# EAGLE library part 113990105 (library esp8266modules)
NodeMCU DEVKIT V1.0 Source: Datasheet <https://github.com/nodemcu/nodemcu-devkit-v1.0/blob/master/NODEMCU_DEVKIT_V1.0.PDF>
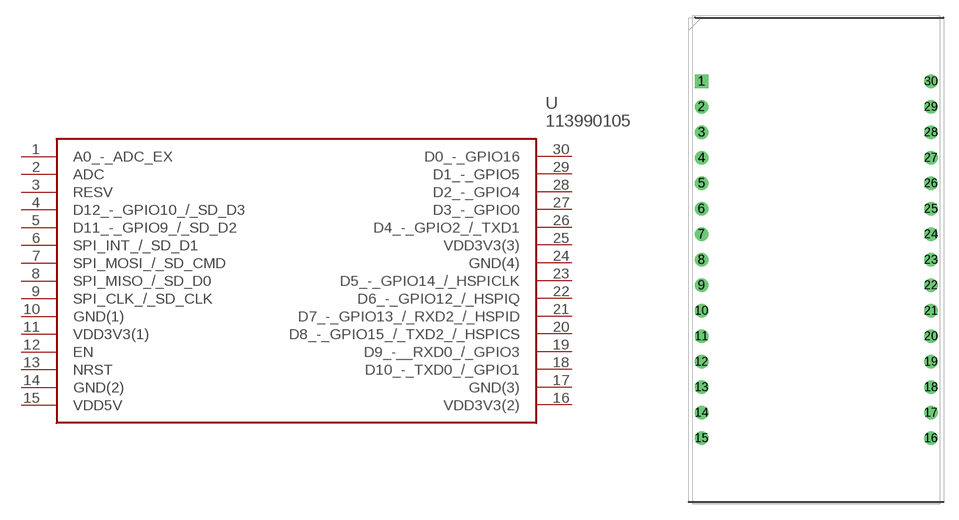
[diagram p18: symbol with the pads of DIP2286W64P254L4826H735Q30N; footprint DIP2286W64P254L4826H735Q30N]

Designator prefix U

## 113990105 (Arrow_Part_Number: 113990105; Description: NodeMCU DEVKIT V1.0; Height: 7.35mm; Manufacturer_Name: Seeed Studio; Manufacturer_Part_Number: 113990105)  [DIP2286W64P254L4826H735Q30N]
1  A0_-_ADC_EX
2  ADC
3  RESV
4  D12_-_GPIO10_/_SD_D3
5  D11_-_GPIO9_/_SD_D2
6  SPI_INT_/_SD_D1
7  SPI_MOSI_/_SD_CMD
8  SPI_MISO_/_SD_D0
9  SPI_CLK_/_SD_CLK
10  GND(1)  pwr
11  VDD3V3(1)  pwr
12  EN  in
13  NRST  in
14  GND(2)  pwr
15  VDD5V  pwr
16  VDD3V3(2)  pwr
17  GND(3)  pwr
18  D10_-_TXD0_/_GPIO1
19  D9_-__RXD0_/_GPIO3
20  D8_-_GPIO15_/_TXD2_/_HSPICS
21  D7_-_GPIO13_/_RXD2_/_HSPID
22  D6_-_GPIO12_/_HSPIQ
23  D5_-_GPIO14_/_HSPICLK
24  GND(4)  pwr
25  VDD3V3(3)  pwr
26  D4_-_GPIO2_/_TXD1
27  D3_-_GPIO0
28  D2_-_GPIO4
29  D1_-_GPIO5
30  D0_-_GPIO16

## Footprint DIP2286W64P254L4826H735Q30N (pad centres in mm)
NodeMCU V1.0
drill 0.835 pad 1.235 square: 1 -11.43,17.78
drill 0.835 pad 1.235: 2 -11.43,15.24; 3 -11.43,12.7; 4 -11.43,10.16; 5 -11.43,7.62; 6 -11.43,5.08; 7 -11.43,2.54; 8 -11.43,0; 9 -11.43,-2.54; 10 -11.43,-5.08; 11 -11.43,-7.62; 12 -11.43,-10.16; 13 -11.43,-12.7; 14 -11.43,-15.24; 15 -11.43,-17.78; 16 11.43,-17.78; 17 11.43,-15.24; 18 11.43,-12.7; 19 11.43,-10.16; 20 11.43,-7.62; 21 11.43,-5.08; 22 11.43,-2.54; 23 11.43,0; 24 11.43,2.54; 25 11.43,5.08; 26 11.43,7.62; 27 11.43,10.16; 28 11.43,12.7; 29 11.43,15.24; 30 11.43,17.78